# Altium footprint library 热敏光敏压敏电阻.PcbLib: 1 footprints
Each footprint in its own frame and in the unit in brackets; x right, y up, seen from the top. Pads: shape width x height; smd on the part's side, far side on the other; paste and mask are expansions set on the pad; w line width, h text height; cw(c..) or ccw(c..) is an arc to the next point about the centre after c.
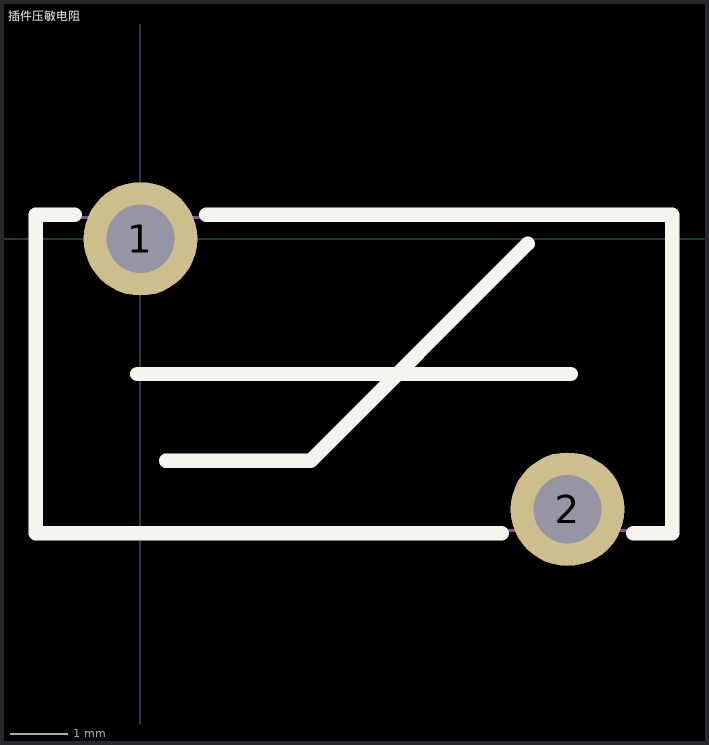
[diagram p0: the footprint, top view; thin cyan lines are the x and y axes]

## 插件压敏电阻 [mm]
pads (2):
  round 2 hole 1.2: 1(0,0) 2(7.5,-4.75)
Top Overlay:
  lines w0.254: -1.157,0.419 -1.838,0.419 -1.838,-5.169 6.343,-5.169 ; -0.06,-2.375 7.56,-2.375 ; 0.448,-3.899 2.988,-3.899 6.798,-0.089 ; 1.157,0.419 9.338,0.419 9.338,-5.169 8.657,-5.169
Mechanical 15:
  region: -1.69,0.375 -1.69,0.4 -1.725,0.435 -1.775,0.435 -1.81,0.4 -1.81,0.375 -1.81,0.35 -1.775,0.315 -1.725,0.315 -1.69,0.35 -1.69,0.375
  region: 0.375,0 0.375,0.075 0.318,0.212 0.212,0.318 0.075,0.375 -0.075,0.375 -0.212,0.318 -0.318,0.212 -0.375,0.075 -0.375,0 -0.375,-0.075 -0.318,-0.212 -0.212,-0.318 -0.075,-0.375 0.075,-0.375 0.212,-0.318 0.318,-0.212 0.375,-0.075 0.375,0
  region: 7.875,-4.75 7.875,-4.675 7.818,-4.538 7.712,-4.432 7.575,-4.375 7.425,-4.375 7.288,-4.432 7.182,-4.538 7.125,-4.675 7.125,-4.75 7.125,-4.825 7.182,-4.962 7.288,-5.068 7.425,-5.125 7.575,-5.125 7.712,-5.068 7.818,-4.962 7.875,-4.825 7.875,-4.75
  lines w0.051: -1.75,-5.125 -1.75,0.375 9.25,0.375 9.25,-5.125 -1.75,-5.125